# Altium footprint library SM_HX1188FNL.PcbLib: 1 footprints
Each footprint in its own frame and in the unit in brackets; x right, y up, seen from the top. Pads: shape width x height; smd on the part's side, far side on the other; paste and mask are expansions set on the pad; w line width, h text height; cw(c..) or ccw(c..) is an arc to the next point about the centre after c.
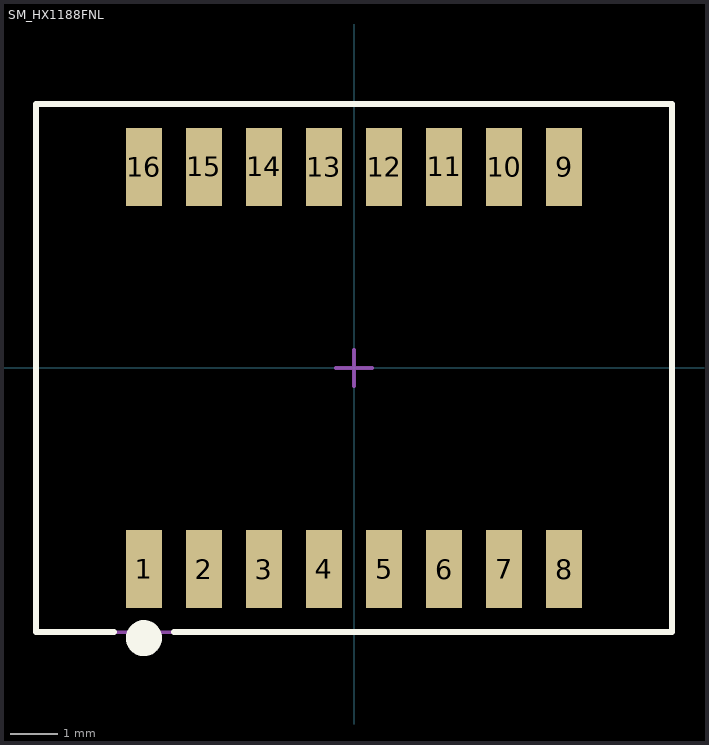
[diagram p0: the footprint, top view; thin cyan lines are the x and y axes]

## SM_HX1188FNL [mil] "XFMR for Lan8720i"
height 240.94
pads (16):
  rect 30x65 smd mask+3: 1(-175,-167.5) 2(-125,-167.5) 3(-75,-167.5) 4(-25,-167.5) 5(25,-167.5) 6(75,-167.5) 7(125,-167.5) 8(175,-167.5) 9(175,167.5) 10(125,167.5) 11(75,167.5) 12(25,167.5) 13(-25,167.5) 14(-75,167.5) 15(-125,167.5) 16(-175,167.5)
Top Overlay:
  circle w20: c-175,-225 r5
  lines w5: -200,-220 -265,-220 -265,220 -175,220 265,220 265,-220 -150,-220
Mechanical 15:
  lines w3: -15,0 15,0 ; 0,-15 0,15 ; -265,-220 -265,220 265,220 265,-220 -265,-220
3D body "HX1188FNL_3D.STEP": height 235.83, standoff 0, extent -249.99,-189.96 250.01,189.97